# Altium schematic symbol library Индуктивности.SchLib: 17 symbols
Pins are listed as number, name and electrical type; pins without a type are passive.

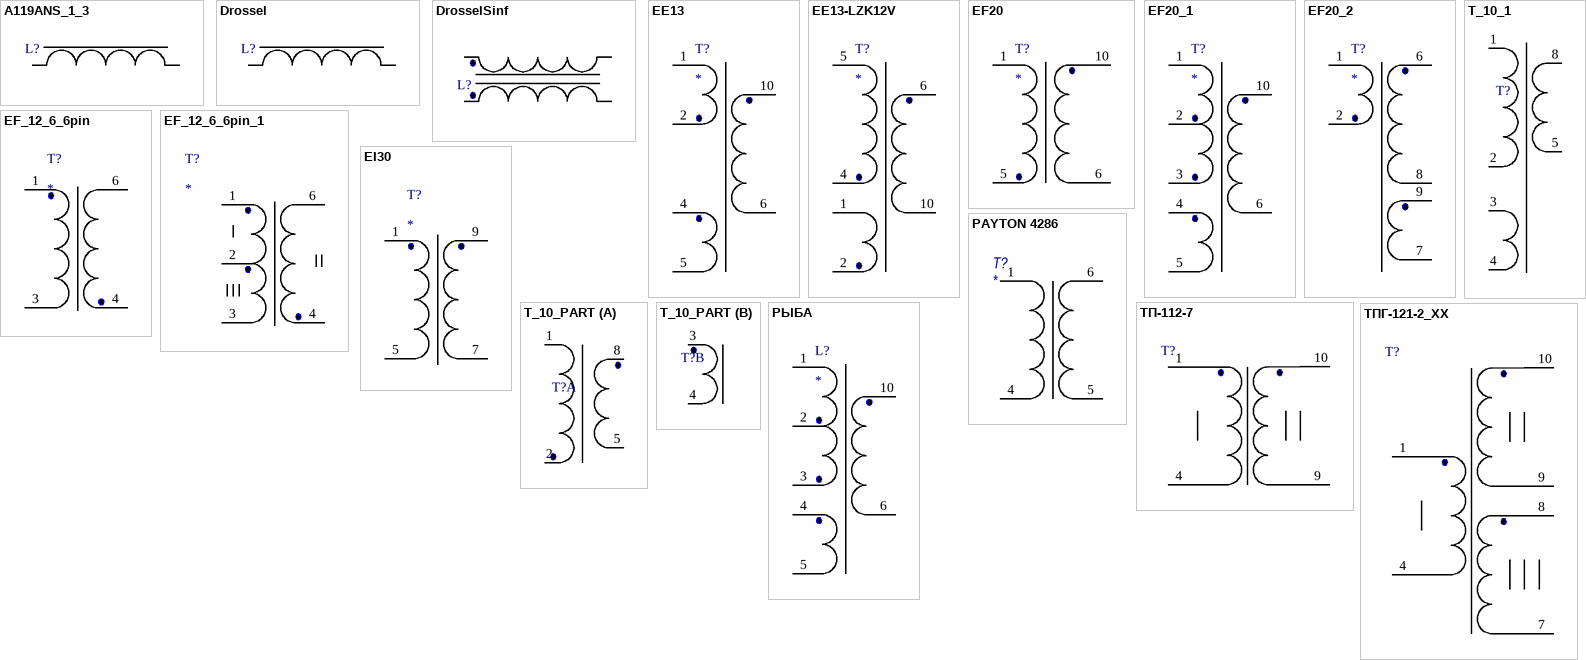
[diagram p0: symbols A119ANS_1_3 to ТПГ-121-2_ХХ]

## A119ANS_1_3
designator L?
pins: 1, 3

## Drossel
designator L?
pins: 1, 2

## DrosselSinf
designator L?
pins: 1, 2, 3, 4

## EE13
designator T?
Rem: *; Package: *; Value: *; Tolerance: *; Power/Voltage: *; TKE: *; ManufacturerPartNumber: *; Manufacturer: *; Quantity: *; Примечание: *; Price: *
pins: 1, 2, 4, 5, 6, 10

## EE13-LZK12V
designator T?
Rem: *; Package: *; Value: *; Tolerance: *; Power/Voltage: *; TKE: *; ManufacturerPartNumber: *; Manufacturer: *; Quantity: *; Примечание: *; Price: *
pins: 1, 2, 4, 5, 6, 10

## EF20
designator T?
Rem: *; Package: *; Value: *; Tolerance: *; Power/Voltage: *; TKE: *; ManufacturerPartNumber: *; Manufacturer: *; Quantity: *; Примечание: *; Price: *
pins: 1, 5, 6, 10

## EF20_1
designator T?
Rem: *; Package: *; Value: *; Tolerance: *; Power/Voltage: *; TKE: *; ManufacturerPartNumber: *; Manufacturer: *; Quantity: *; Примечание: *; Price: *
pins: 1, 2, 3, 4, 5, 6, 10

## EF20_2
designator T?
Rem: *; Package: *; Value: *; Tolerance: *; Power/Voltage: *; TKE: *; ManufacturerPartNumber: *; Manufacturer: *; Quantity: *; Примечание: *; Price: *
pins: 1, 2, 6, 7, 8, 9

## EF_12_6_6pin
designator T?
Rem: *; Package: *; Value: *; Tolerance: *; Power/Voltage: *; TKE: *; ManufacturerPartNumber: *; Manufacturer: *; Quantity: *; Примечание: *; Price: *
pins: 1, 3, 4, 6

## EF_12_6_6pin_1
designator T?
Rem: *; Package: *; Value: *; Tolerance: *; Power/Voltage: *; TKE: *; ManufacturerPartNumber: *; Manufacturer: *; Quantity: *; Примечание: *; Price: *
pins: 1, 2, 3, 4, 6

## EI30
designator T?
Rem: *; Package: *; Value: *; Tolerance: *; Power/Voltage: *; TKE: *; ManufacturerPartNumber: *; Manufacturer: *; Quantity: *; Примечание: *; Price: *
pins: 1, 5, 7, 9

## PAYTON 4286
designator T?
pins: 1, 4, 5, 6

## T_10_1
designator T?  (value not drawn)
pins: 1, 2, 3, 4, 5, 8

## T_10_PART
designator T?  (value not drawn)
part A pins: 1, 2, 5, 8
part B pins: 3, 4

## РЫБА
designator L?
Rem: *; Package: *; Value: *; Tolerance: *; Power/Voltage: *; TKE: *; ManufacturerPartNumber: *; Manufacturer: *; Quantity: *; Примечание: *; Price: *
pins: 1, 2, 3, 4, 5, 6, 10

## ТП-112-7
designator T?  (value not drawn)
pins: 1, 4, 9, 10

## ТПГ-121-2_ХХ
designator T?  (value not drawn)
pins: 1, 4, 7, 8, 9, 10